# Altium schematic symbol library 5v-dc5.5.SchLib: 1 symbol
Pins are listed as number, name and electrical type; pins without a type are passive.

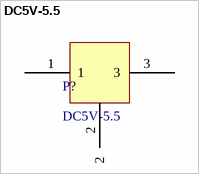
[diagram p0: symbol DC5V-5.5]

## DC5V-5.5
designator P?
footprint PIN3-DC5V
pins: 1 (power), 2 (power), 3 (power)